# Altium footprint library PIC16F882-I_SP.PcbLib: 1 footprints
Each footprint in its own frame and in the unit in brackets; x right, y up, seen from the top. Pads: shape width x height; smd on the part's side, far side on the other; paste and mask are expansions set on the pad; w line width, h text height; cw(c..) or ccw(c..) is an arc to the next point about the centre after c.
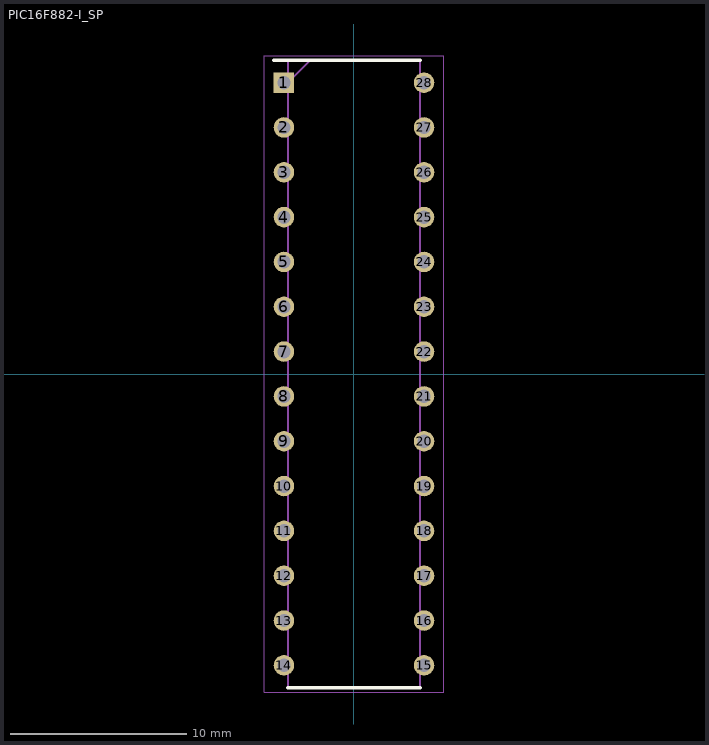
[diagram p0: the footprint, top view; thin cyan lines are the x and y axes]

## PIC16F882-I_SP [mm]
pads (28):
  rect 1.159x1.159 hole 0.759: 1(-3.969,16.51)
  round 1.159 hole 0.759: 2(-3.969,13.97) 3(-3.969,11.43) 4(-3.969,8.89) 5(-3.969,6.35) 6(-3.969,3.81) 7(-3.969,1.27) 8(-3.969,-1.27) 9(-3.969,-3.81) 10(-3.969,-6.35) 11(-3.969,-8.89) 12(-3.969,-11.43) 13(-3.969,-13.97) 14(-3.969,-16.51) 15(3.969,-16.51) 16(3.969,-13.97) 17(3.969,-11.43) 18(3.969,-8.89) 19(3.969,-6.35) 20(3.969,-3.81) 21(3.969,-1.27) 22(3.969,1.27) 23(3.969,3.81) 24(3.969,6.35) 25(3.969,8.89) 26(3.969,11.43) 27(3.969,13.97) 28(3.969,16.51)
Top Overlay:
  lines w0.2: -4.548,17.78 3.746,17.78 ; -3.746,-17.78 3.746,-17.78
Mechanical 13:
  lines w0.1: -3.746,16.51 -2.476,17.78 ; -3.746,-17.78 -3.746,17.78 3.746,17.78 3.746,-17.78 -3.746,-17.78
Mechanical 15:
  lines w0.05: -5.084,-18.03 -5.084,18.03 5.084,18.03 5.084,-18.03 -5.084,-18.03
3D body "PIC16F882-I_SP.stp": height 5.08, standoff -3.5, extent -4.108,-17.431 4.109,17.431